# Altium footprint library LM555.PcbLib: 1 footprints
Each footprint in its own frame and in the unit in brackets; x right, y up, seen from the top. Pads: shape width x height; smd on the part's side, far side on the other; paste and mask are expansions set on the pad; w line width, h text height; cw(c..) or ccw(c..) is an arc to the next point about the centre after c.
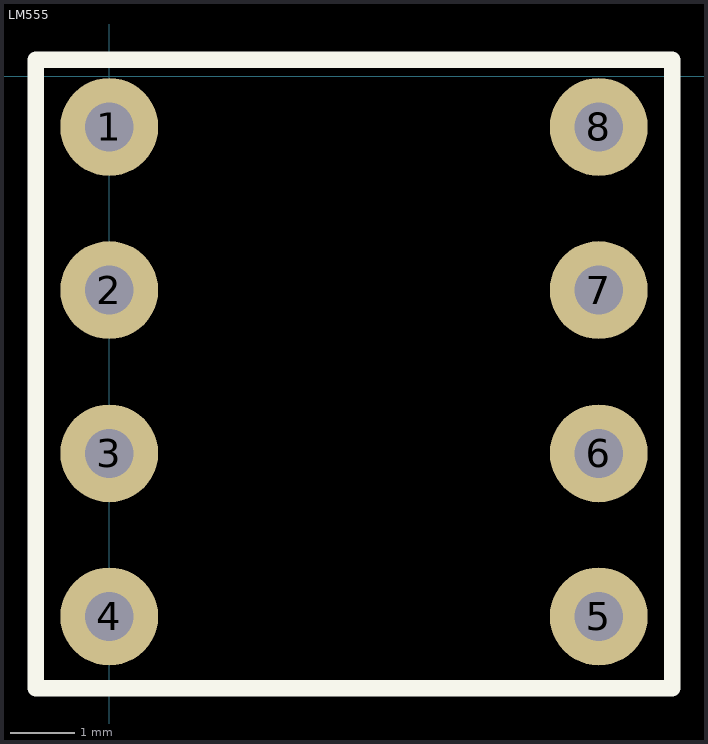
[diagram p0: the footprint, top view; thin cyan lines are the x and y axes]

## LM555 [mil] "LM555"
pads (8):
  round 60 hole 30: 1(0,-31.1) 2(0,-131.1) 3(0,-231.1) 4(0,-331.1) 5(300,-331.1) 6(300,-231.1) 7(300,-131.1) 8(300,-31.1)
Top Overlay:
  lines w10: -45,-375 -45,10 345,10 345,-375 -45,-375